# EAGLE library part CONN_FV-M8 (library gps)
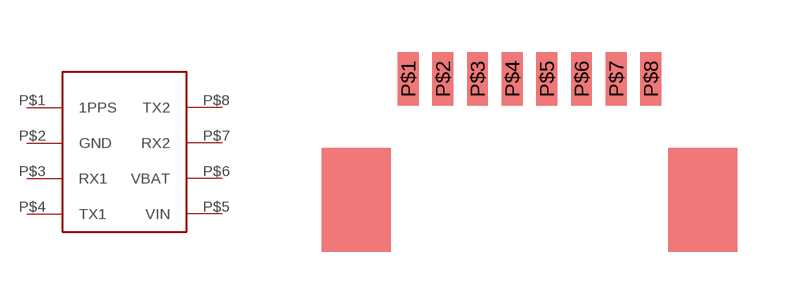
[diagram p0: symbol with the pads of CONN_FV-M8_SMD; footprint CONN_FV-M8_SMD]

Designator prefix J

## CONN_FV-M8  [CONN_FV-M8_SMD]
P$1  1PPS
P$2  GND  sup
P$3  RX1
P$4  TX1
P$5  VIN  sup
P$6  VBAT
P$7  RX2
P$8  TX2

## Footprint CONN_FV-M8_SMD (pad centres in mm)
smd 0.6 x 1.55: P$1 -4,3; P$2 -3,3; P$3 -2,3; P$4 -1,3; P$5 0,3; P$6 1,3; P$7 2,3; P$8 3,3